# Altium schematic symbol library sym-0001.SchLib: 1 symbol
Pins are listed as number, name and electrical type; pins without a type are passive.

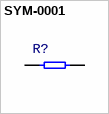
[diagram p0: symbol SYM-0001]

## SYM-0001
designator R?
Generic Resistor
pins: 1, 2
1 alternate drawing of the same symbol